# EAGLE library part AD5693RARMZ (library AD5693RARMZ)
Analog Devices AD5693RARMZ, 16 bit Serial DAC, 10-Pin MSOP Source: Datasheet <https://www.analog.com/media/en/technical-documentation/data-sheets/ad5693r_5692r_5691r_5693.pdf>
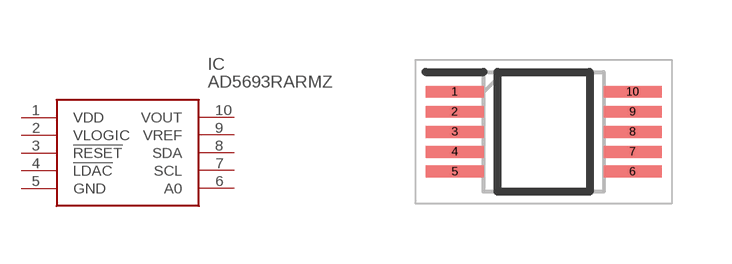
[diagram p0: symbol with the pads of SOP50P490X110-10N; footprint SOP50P490X110-10N]

Designator prefix IC

## AD5693RARMZ (Description: Analog Devices AD5693RARMZ, 16 bit Serial DAC, 10-Pin MSOP; Height: 1.1mm; Manufacturer_Name: Analog Devices; Manufacturer_Part_Number: AD5693RARMZ; Mouser_Part_Number: 584-AD5693RARMZ; Mouser_Price-Stock: https://www.mouser.co.uk/ProductDetail/Analog-Devices/AD5693RARMZ?qs=vPP9GyyTAo0MlAXojaRB6w%3D%3D)  [SOP50P490X110-10N]
1  VDD
2  VLOGIC
3  !RESET
4  !LDAC
5  GND
6  A0
7  SCL
8  SDA
9  VREF
10  VOUT

## Footprint SOP50P490X110-10N (pad centres in mm)
RM-10(MSOP)
smd 1.45 x 0.3: 1 -2.225,1; 2 -2.225,0.5; 3 -2.225,0; 4 -2.225,-0.5; 5 -2.225,-1; 6 2.225,-1; 7 2.225,-0.5; 8 2.225,0; 9 2.225,0.5; 10 2.225,1